# Altium footprint library Asix Electronics.PcbLib: 1 footprints
Each footprint in its own frame and in the unit in brackets; x right, y up, seen from the top. Pads: shape width x height; smd on the part's side, far side on the other; paste and mask are expansions set on the pad; w line width, h text height; cw(c..) or ccw(c..) is an arc to the next point about the centre after c.
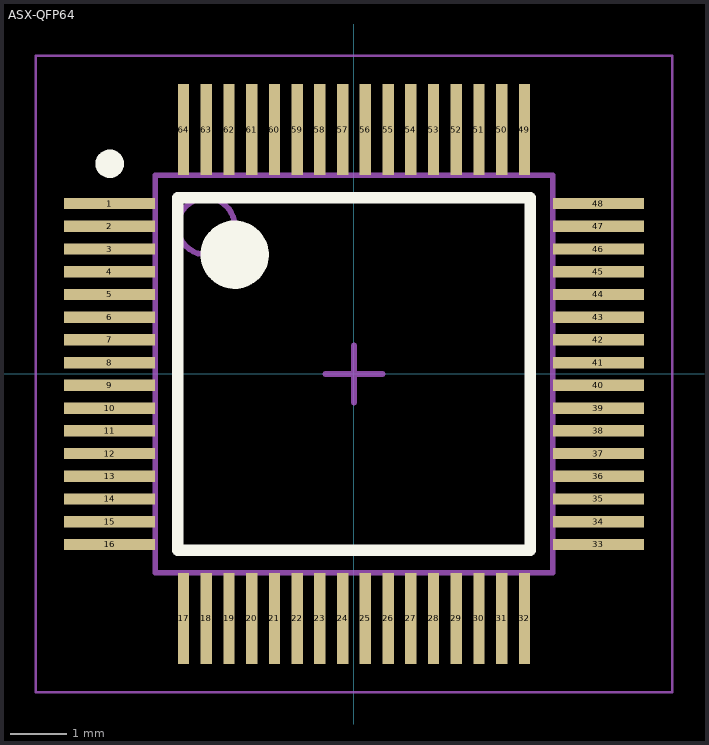
[diagram p0: the footprint, top view; thin cyan lines are the x and y axes]

## ASX-QFP64 [mm] "TSQFP, 64-Leads, Body 7.00x7.00mm, Pitch 0.40mm, IPC Low Density"
height 1.6
pads (64):
  rect 1.6x0.2 smd: 1(-4.3,3) 2(-4.3,2.6) 3(-4.3,2.2) 4(-4.3,1.8) 5(-4.3,1.4) 6(-4.3,1) 7(-4.3,0.6) 8(-4.3,0.2) 9(-4.3,-0.2) 10(-4.3,-0.6) 11(-4.3,-1) 12(-4.3,-1.4) 13(-4.3,-1.8) 14(-4.3,-2.2) 15(-4.3,-2.6) 16(-4.3,-3) 33(4.3,-3) 34(4.3,-2.6) 35(4.3,-2.2) 36(4.3,-1.8) 37(4.3,-1.4) 38(4.3,-1) 39(4.3,-0.6) 40(4.3,-0.2) 41(4.3,0.2) 42(4.3,0.6) 43(4.3,1) 44(4.3,1.4) 45(4.3,1.8) 46(4.3,2.2) 47(4.3,2.6) 48(4.3,3)
  rect 0.2x1.6 smd: 17(-3,-4.3) 18(-2.6,-4.3) 19(-2.2,-4.3) 20(-1.8,-4.3) 21(-1.4,-4.3) 22(-1,-4.3) 23(-0.6,-4.3) 24(-0.2,-4.3) 25(0.2,-4.3) 26(0.6,-4.3) 27(1,-4.3) 28(1.4,-4.3) 29(1.8,-4.3) 30(2.2,-4.3) 31(2.6,-4.3) 32(3,-4.3) 49(3,4.3) 50(2.6,4.3) 51(2.2,4.3) 52(1.8,4.3) 53(1.4,4.3) 54(1,4.3) 55(0.6,4.3) 56(0.2,4.3) 57(-0.2,4.3) 58(-0.6,4.3) 59(-1,4.3) 60(-1.4,4.3) 61(-1.8,4.3) 62(-2.2,4.3) 63(-2.6,4.3) 64(-3,4.3)
Top Overlay:
  circle w0.25: c-4.3,3.7 r0.125
  circle w0.6: c-2.1,2.1 r0.3
  lines w0.2: -3.1,-3.1 -3.1,3.1 3.1,3.1 3.1,-3.1 -3.1,-3.1
Mechanical 13:
  circle w0.1: c-2.6,2.6 r0.5
  lines w0.1: -3.5,-3.5 -3.5,3.5 3.5,3.5 3.5,-3.5 -3.5,-3.5
Mechanical 15:
  lines w0.05: -5.6,-5.6 -5.6,5.6 5.6,5.6 5.6,-5.6 -5.6,-5.6
  lines w0.1: -0.5,0 0.5,0 ; 0,-0.5 0,0.5
3D body "ASX-QFP64.step": height 1.6, standoff 0, extent -4.5,-4.5 4.5,4.5